# Altium schematic symbol library 我的元件库.SchLib: 102 symbols
Pins are listed as number, name and electrical type; pins without a type are passive.

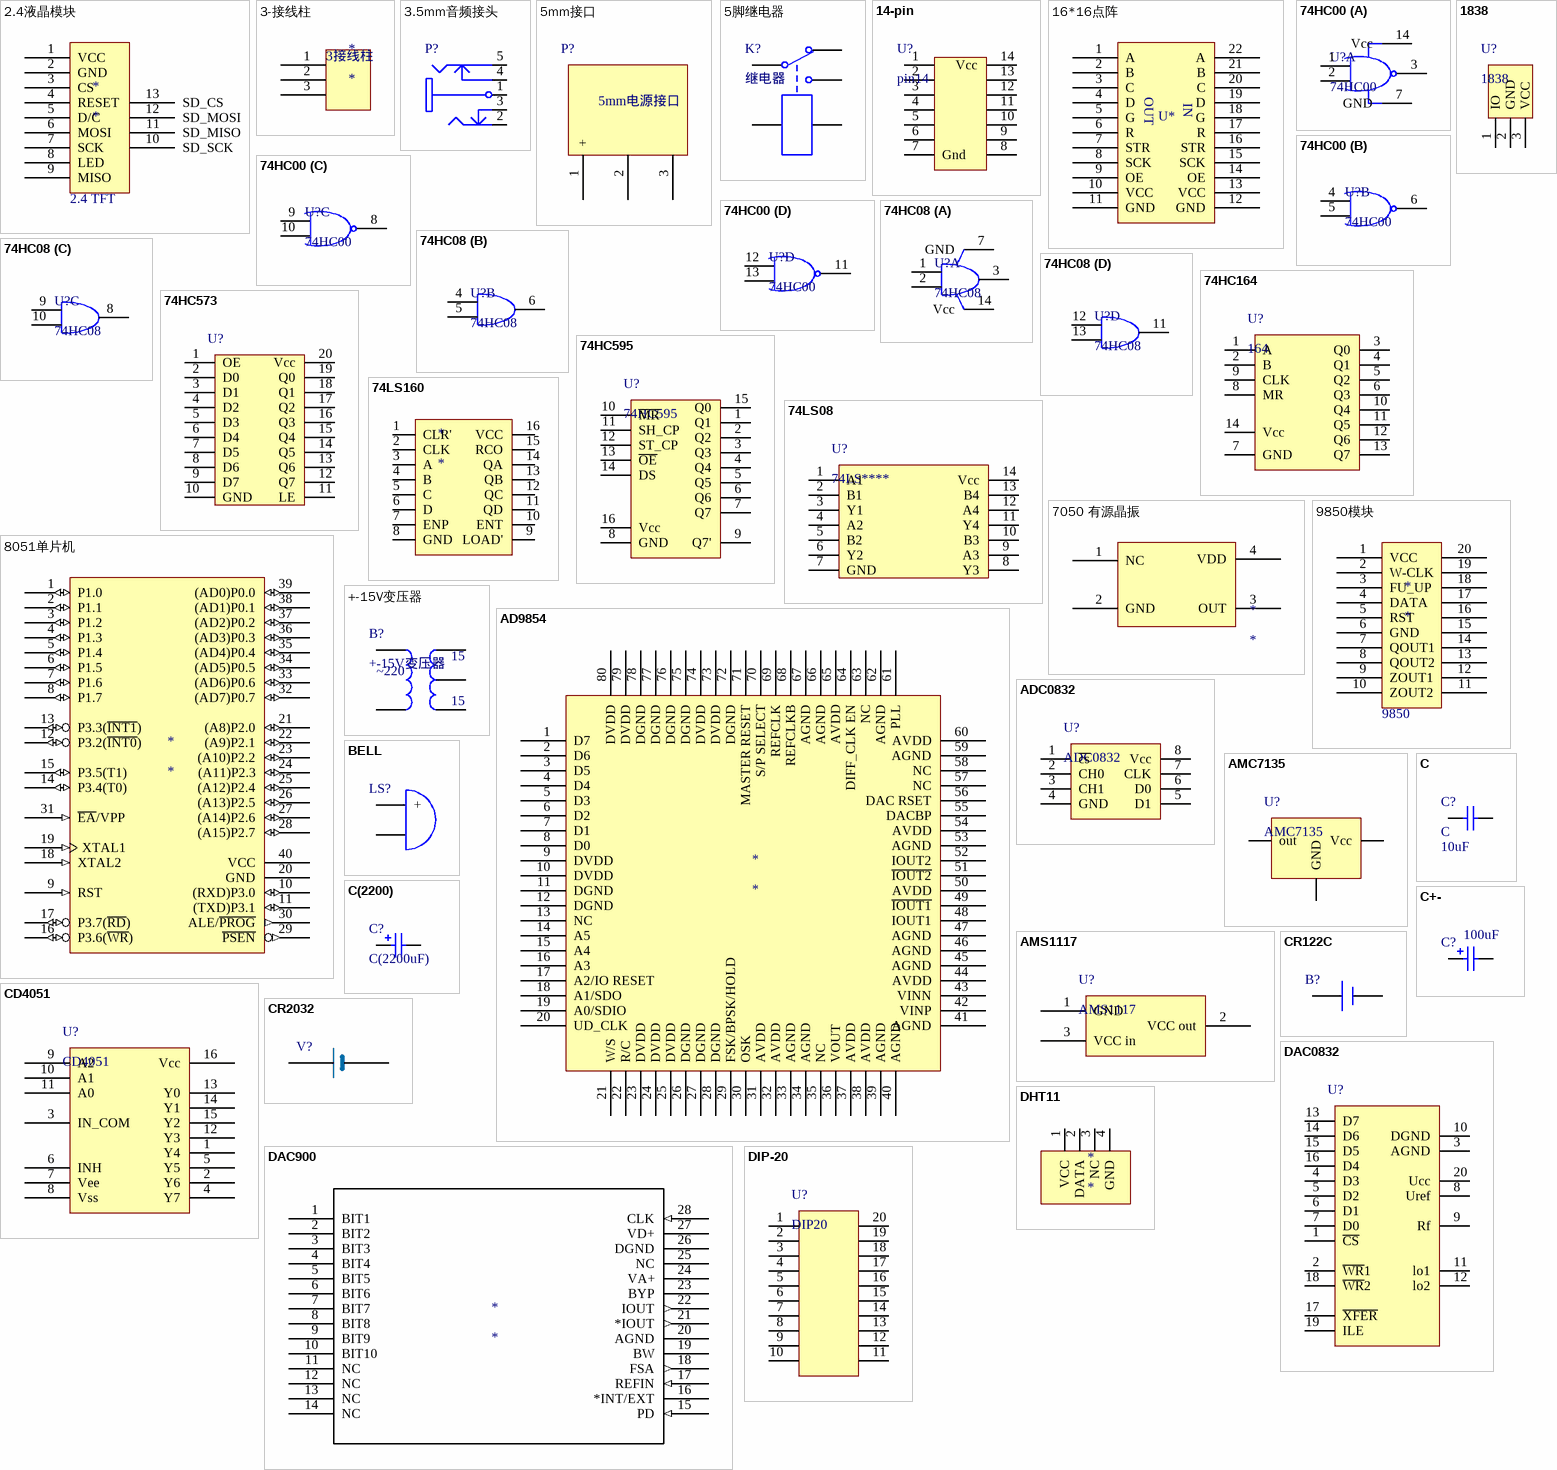
[diagram p0: symbols 2.4液晶模块 to DIP-20]

## 2.4液晶模块
designator *
footprint 2.4 TFT
pins: 1 VCC, 2 GND, 3 CS, 4 RESET, 5 D/C, 6 MOSI, 7 SCK, 8 LED, 9 MISO, 10 SD_SCK, 11 SD_MISO, 12 SD_MOSI, 13 SD_CS
text: 2.4 TFT

## 3-接线柱
designator *
footprint 3接线柱
pins: 1, 2, 3
text: 3接线柱

## 3.5mm音频接头
designator P?, comment 3.5mm  (value not drawn)
footprint 3.5 mm音频接头
pins: 1 Ground (power) "Outer Shield (Sleeve)", 2 (power), 3 (power), 4 (power), 5 (power)

## 5mm接口
designator P?, comment 5mm电源接口  (value not drawn)
footprint 5mm接口
pins: 1 + (power), 2 (power), 3 (power)

## 5脚继电器
designator K?, comment 继电器
footprint 5Pin继电器
pins: 1, 2, 3, 4, 5

## 14-pin
designator U?, comment pin14
footprint DIP14 (STC)
pins: 1, 2, 3, 4, 5, 6, 7 Gnd, 8, 9, 10, 11, 12, 13, 14 Vcc

## 16*16点阵
designator U*  (value not drawn)
footprint 16*16点阵
pins: 1 A, 2 B, 3 C, 4 D, 5 G, 6 R, 7 STR, 8 SCK, 9 OE, 10 VCC, 11 GND, 12 GND, 13 VCC, 14 OE, 15 SCK, 16 STR, 17 R, 18 G, 19 D, 20 C, 21 B, 22 A
text: OUT; IN

## 74HC00
designator U?
footprint DIP14
part A pins: 1, 2, 3, 7 GND, 14 Vcc
part B pins: 4, 5, 6
part C pins: 8, 9, 10
part D pins: 11, 12, 13

## 74HC08
designator U?
footprint DIP14
part A pins: 1, 2, 3, 7 GND, 14 Vcc
part B pins: 4  , 5  , 6  
part C pins: 8  , 9  , 10  
part D pins: 11  , 12  , 13  

## 74HC164
designator U?, comment 164
footprint SOP14
pins: 1 A, 2 B, 3 Q0, 4 Q1, 5 Q2, 6 Q3, 7 GND, 8 MR, 9 CLK, 10 Q4, 11 Q5, 12 Q6, 13 Q7, 14 Vcc

## 74HC573
designator U?  (value not drawn)
footprint SOP20 (STC)
pins: 1 OE, 2 D0, 3 D1, 4 D2, 5 D3, 6 D4, 7 D5, 8 D6, 9 D7, 10 GND, 11 LE, 12 Q7, 13 Q6, 14 Q5, 15 Q4, 16 Q3, 17 Q2, 18 Q1, 19 Q0, 20 Vcc

## 74HC595
designator U?
footprint DIP16
pins: 1 Q1, 2 Q2, 3 Q3, 4 Q4, 5 Q5, 6 Q6, 7 Q7, 8 GND, 9 Q7', 10 ~{MR}, 11 SH_CP, 12 ST_CP, 13 ~{OE}, 14 DS, 15 Q0, 16 Vcc

## 74LS08
designator U?, comment 74LS****
footprint DIP14
pins: 1 A1, 2 B1, 3 Y1, 4 A2, 5 B2, 6 Y2, 7 GND, 8 Y3, 9 A3, 10 B3, 11 Y4, 12 A4, 13 B4, 14 Vcc

## 74LS160
designator *
footprint DIP-16
pins: 1 CLR', 2 CLK, 3 A, 4 B, 5 C, 6 D, 7 ENP, 8 GND, 9 LOAD', 10 ENT, 11 QD, 12 QC, 13 QB, 14 QA, 15 RCO, 16 VCC

## 1838
designator U?
footprint DS18B20
pins: 1 IO, 2 GND, 3 VCC

## 7050 有源晶振
designator *
footprint 7050晶振
pins: 1 NC, 2 GND, 3 OUT, 4 VDD

## 8051单片机
designator *
pins: 1 P1.0 (io), 2 P1.1 (io), 3 P1.2 (io), 4 P1.3 (io), 5 P1.4 (io), 6 P1.5 (io), 7 P1.6 (io), 8 P1.7 (io), 9 RST (in), 10 (RXD)P3.0 (io), 11 (TXD)P3.1 (io), 12 P3.2(~{INT0}) (io), 13 P3.3(~{INT1}) (io), 14 P3.4(T0) (io), 15 P3.5(T1) (io), 16 P3.6(~{WR}) (io), 17 P3.7(~{RD}) (io), 18 XTAL2 (in), 19 XTAL1 (in), 20 GND (power), 21 (A8)P2.0 (io), 22 (A9)P2.1 (io), 23 (A10)P2.2 (io), 24 (A11)P2.3 (io), 25 (A12)P2.4 (io), 26 (A13)P2.5 (io), 27 (A14)P2.6 (io), 28 (A15)P2.7 (io), 29 ~{PSEN} (out), 30 ALE/~{PROG} (out), 31 ~{EA}/VPP (in), 32 (AD7)P0.7 (io), 33 (AD6)P0.6 (io), 34 (AD5)P0.5 (io), 35 (AD4)P0.4 (io), 36 (AD3)P0.3 (io), 37 (AD2)P0.2 (io), 38 (AD1)P0.1 (io), 39 (AD0)P0.0 (io), 40 VCC (power)

## 9850模块
designator *
footprint DDS9850
pins: 1 VCC, 2 W-CLK, 3 FU_UP, 4 DATA, 5 RST, 6 GND, 7 QOUT1, 8 QOUT2, 9 ZOUT1, 10 ZOUT2, 11, 12, 13, 14, 15, 16, 17, 18, 19, 20
text: 9850

## +-15V变压器
designator B?
footprint +——15V变压器
pins: 1, 2, 3, 4, 5
text: 15; ~220

## AD9854
designator *
pins: 1 D7, 2 D6, 3 D5, 4 D4, 5 D3, 6 D2, 7 D1, 8 D0, 9 DVDD, 10 DVDD, 11 DGND, 12 DGND, 13 NC, 14 A5, 15 A4, 16 A3, 17 A2/IO RESET, 18 A1/SDO, 19 A0/SDIO, 20 UD_CLK, 21 W/S, 22 R/C, 23 DVDD, 24 DVDD, 25 DVDD, 26 DGND, 27 DGND, 28 DGND, 29 FSK/BPSK/HOLD, 30 OSK, 31 AVDD, 32 AVDD, 33 AGND, 34 AGND, 35 NC, 36 VOUT, 37 AVDD, 38 AVDD, 39 AGND, 40 AGND, 41 AGND, 42 VINP, 43 VINN, 44 AVDD, 45 AGND, 46 AGND, 47 AGND, 48 IOUT1, 49 ~{IOUT1}, 50 AVDD, 51 ~{IOUT2}, 52 IOUT2, 53 AGND, 54 AVDD, 55 DACBP, 56 DAC RSET, 57 NC, 58 NC, 59 AGND, 60 AVDD, 61 PLL, 62 AGND, 63 NC, 64 DIFF_CLK EN, 65 AVDD, 66 AGND, 67 AGND, 68 REFCLKB, 69 REFCLK, 70 S/P SELECT, 71 MASTER RESET, 72 DGND, 73 DVDD, 74 DVDD, 75 DGND, 76 DGND, 77 DGND, 78 DGND, 79 DVDD, 80 DVDD

## ADC0832
designator U?
footprint DIP8
pins: 1 ~{cs}, 2 CH0, 3 CH1, 4 GND, 5 D1, 6 D0, 7 CLK, 8 Vcc

## AMC7135
designator U?
footprint SOT89-150P348X160-3N (SOT89, 3-Leads, Body 4.5x2.4mm (max), Pitch 1.50mm, Lead Span 3.5mm, IPC Medium Density)
pins: 1 out, 2 GND, 3 Vcc

## AMS1117
designator U?
footprint AMS1117
pins: 1 GND (power), 2 VCC out (power), 3 VCC in (power)

## BELL
designator LS?  (value not drawn)
footprint 有源蜂鸣器
pins: 1 +, 2 B

## C
designator C?  value 10uF
footprint 钽电容1210、3528
footprint C 2MM
footprint C 200MIL
footprint 0805 (Chip Capacitor, 2-Leads, Body 2.0x1.3mm, IPC Medium Density)
footprint 0603
footprint C 100MIL
pins: 1, 2

## C(2200)
designator C?, comment C(2200uF)
footprint 1,3mm
footprint 1.6mm
pins: 1, 2

## C+-
designator C?  value 100uF  (hidden comment: C+-)
footprint 电解电容
footprint C 100MIL
footprint C 200MIL
footprint C 2MM
pins: 1, 2

## CD4051
designator U?
footprint DIP16
pins: 1 Y4, 2 Y6, 3 IN_COM, 4 Y7, 5 Y5, 6 INH, 7 Vee, 8 Vss, 9 A2, 10 A1, 11 A0, 12 Y3, 13 Y0, 14 Y1, 15 Y2, 16 Vcc

## CR122C
designator B?, comment Battery  (value not drawn)
footprint CR122C
pins: 1 +, 2 -

## CR2032
designator V?, comment POWER  (value not drawn)
footprint CR2032
pins: 1 Vcc, 2 Vcc

## DAC0832
designator U?  (value not drawn)
footprint DIP-20
pins: 1 ~{CS}, 2 ~{WR}1, 3 AGND, 4 D3, 5 D2, 6 D1, 7 D0, 8 Uref, 9 Rf, 10 DGND, 11 lo1, 12 lo2, 13 D7, 14 D6, 15 D5, 16 D4, 17 ~{XFER}, 18 ~{WR}2, 19 ILE, 20 Ucc

## DAC900
designator *
footprint TSSOP28 (DAC900)
footprint DIP-28
pins: 1 BIT1, 2 BIT2, 3 BIT3, 4 BIT4, 5 BIT5, 6 BIT6, 7 BIT7, 8 BIT8, 9 BIT9, 10 BIT10, 11 NC, 12 NC, 13 NC, 14 NC, 15 PD (in), 16 *INT/EXT, 17 REFIN (in), 18 FSA (out), 19 BW, 20 AGND (power), 21 *IOUT (out), 22 IOUT (out), 23 BYP, 24 VA+ (power), 25 NC, 26 DGND (power), 27 VD+ (power), 28 CLK (in)

## DHT11
designator *
footprint pin 4
pins: 1 VCC, 2 DATA, 3 NC, 4 GND

## DIP-20
designator U?, comment DIP20
footprint DIP-20
pins: 1, 2, 3, 4, 5, 6, 7, 8, 9, 10, 11, 12, 13, 14, 15, 16, 17, 18, 19, 20

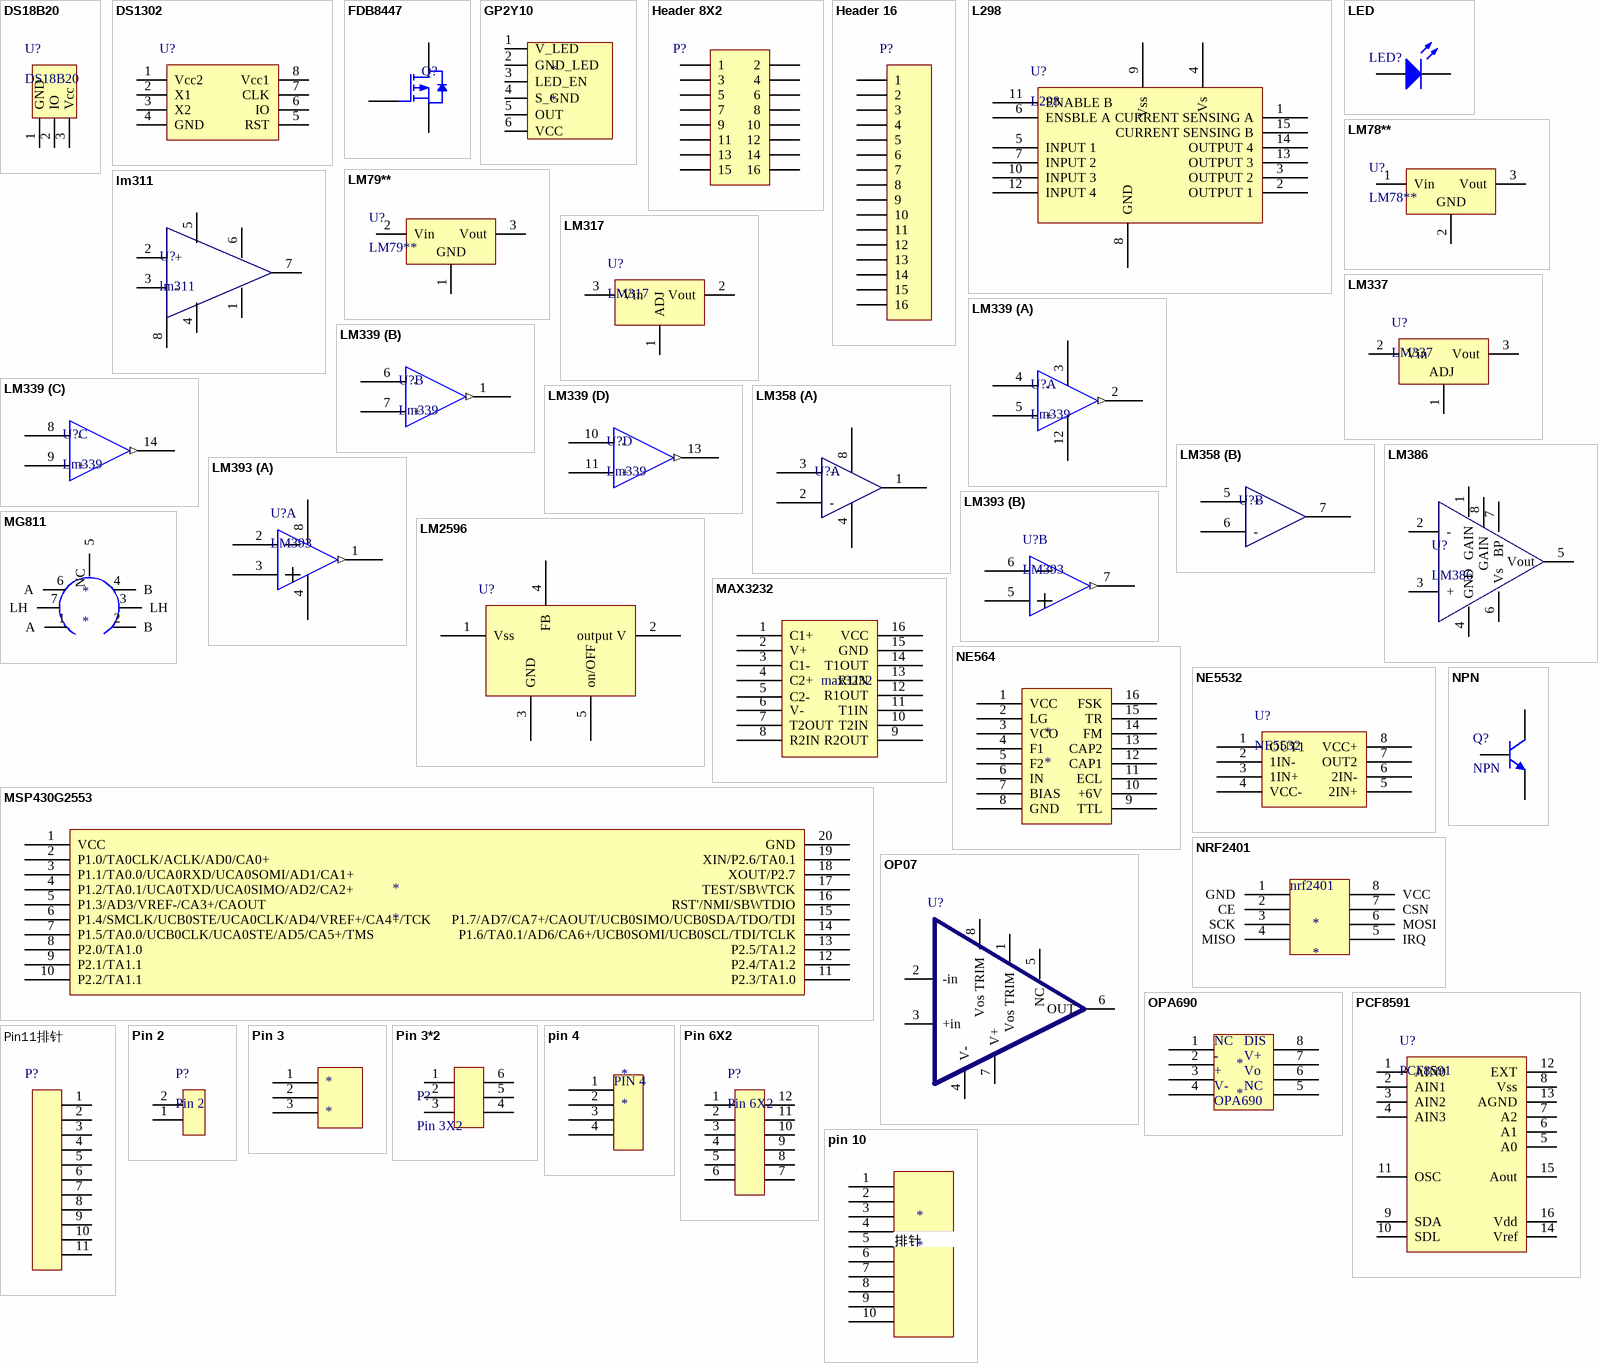
[diagram p1: symbols DS18B20 to pin 10]

## DS18B20
designator U?
footprint DS18B20
pins: 1 GND, 2 IO, 3 Vcc

## DS1302
designator U?  (value not drawn)
footprint SOP8 (STC)
pins: 1 Vcc2, 2 X1, 3 X2, 4 GND, 5 RST, 6 IO, 7 CLK, 8 Vcc1

## FDB8447
designator Q?, comment N-增强型-MOS  (value not drawn)
footprint TO-263AB
pins: 1 D, 2 G, 3 S

## GP2Y10
designator *
footprint pin6
pins: 1 V_LED, 2 GND_LED, 3 LED_EN, 4 S_GND, 5 OUT, 6 VCC

## Header 8X2
designator P?, comment P  (value not drawn)
footprint Header 8X2
pins: 1, 2, 3, 4, 5, 6, 7, 8, 9, 10, 11, 12, 13, 14, 15, 16

## Header 16
designator P?, comment P  (value not drawn)
footprint Header 16
pins: 1, 2, 3, 4, 5, 6, 7, 8, 9, 10, 11, 12, 13, 14, 15, 16

## L298
designator U?
footprint L298
pins: 1 CURRENT SENSING A (power), 2 OUTPUT 1 (power), 3 OUTPUT 2 (power), 4 Vs (power), 5 INPUT 1 (power), 6 ENSBLE A (power), 7 INPUT 2 (power), 8 GND (power), 9 Vss (power), 10 INPUT 3 (power), 11 ENABLE B (power), 12 INPUT 4 (power), 13 OUTPUT 3 (power), 14 OUTPUT 4 (power), 15 CURRENT SENSING B (power)

## LED
designator LED?  (value not drawn)
footprint LED1
footprint LED2
footprint 0805 (Chip Capacitor, 2-Leads, Body 2.0x1.3mm, IPC Medium Density)
pins: 1 A, 2 K

## LM78**
designator U?
footprint LM78**
pins: 1 Vin, 2 GND, 3 Vout

## LM79**
designator U?
footprint LM78**
pins: 1 GND, 2 Vin, 3 Vout

## lm311
designator U?
footprint DIP8 - duplicate
pins: 1 GNd, 2 +, 3 -, 4 VEE, 5 平衡, 6 平衡/选通, 7 output, 8 Vcc

## LM317
designator U?
footprint LM78**
pins: 1 ADJ, 2 Vout, 3 Vin

## LM337
designator U?
pins: 1 ADJ, 2 Vin, 3 Vout

## LM339
designator U?, comment Lm339
footprint DIP14
part A pins: 2 out1 (out), 3 Vcc, 4 -, 5 +, 12 GND
part B pins: 1 out1 (out), 6 -, 7 +
part C pins: 8 -, 9 +, 14 out1 (out)
part D pins: 10 -, 11 +, 13 out1 (out)

## LM358
designator U?  (value not drawn)
footprint DIP8 - duplicate
part A pins: 1 output1, 2 -, 3 +, 4 G, 8 V
part B pins: 5 +, 6 -, 7 output1

## LM386
designator U?
footprint DIP8 - duplicate
pins: 1 GAIN, 2 -, 3 +, 4 GND, 5 Vout, 6 Vs, 7 BP, 8 GAIN

## LM393
designator U?
footprint DIP8
part A pins: 1 out1 (out), 2 IN1(-), 3 IN1(+), 4 GND, 8 Vcc
part B pins: 5 IN2(+), 6 IN2(-), 7 out2 (out)

## LM2596
designator U?  (value not drawn)
footprint LM2596
footprint LM2596_tp
pins: 1 Vss, 2 output V, 3 GND, 4 FB, 5 on/OFF

## MAX3232
designator max3232  (value not drawn)
footprint SO16(MAX3232)
pins: 1 C1+, 2 V+, 3 C1-, 4 C2+, 5 C2-, 6 V-, 7 T2OUT, 8 R2IN, 9 R2OUT, 10 T2IN, 11 T1IN, 12 R1OUT, 13 R1IN, 14 T1OUT, 15 GND, 16 VCC

## MG811
designator *
footprint MQ座
pins: 1 A, 2 B, 3 LH, 4 B, 6 A, 7 LH, NC 5

## MSP430G2553
designator *
footprint DIP-20
pins: 1 VCC, 2 P1.0/TA0CLK/ACLK/AD0/CA0+, 3 P1.1/TA0.0/UCA0RXD/UCA0SOMI/AD1/CA1+, 4 P1.2/TA0.1/UCA0TXD/UCA0SIMO/AD2/CA2+, 5 P1.3/AD3/VREF-/CA3+/CAOUT, 6 P1.4/SMCLK/UCB0STE/UCA0CLK/AD4/VREF+/CA4+/TCK, 7 P1.5/TA0.0/UCB0CLK/UCA0STE/AD5/CA5+/TMS, 8 P2.0/TA1.0, 9 P2.1/TA1.1, 10 P2.2/TA1.1, 11 P2.3/TA1.0, 12 P2.4/TA1.2, 13 P2.5/TA1.2, 14 P1.6/TA0.1/AD6/CA6+/UCB0SOMI/UCB0SCL/TDI/TCLK, 15 P1.7/AD7/CA7+/CAOUT/UCB0SIMO/UCB0SDA/TDO/TDI, 16 RST'/NMI/SBWTDIO, 17 TEST/SBWTCK, 18 XOUT/P2.7, 19 XIN/P2.6/TA0.1, 20 GND

## NE564
designator *
footprint DIP-16
pins: 1 VCC, 2 LG, 3 VCO, 4 F1, 5 F2, 6 IN, 7 BIAS, 8 GND, 9 TTL, 10 +6V, 11 ECL, 12 CAP1, 13 CAP2, 14 FM, 15 TR, 16 FSK

## NE5532
designator U?
footprint DIP8 - duplicate
footprint SOP-8 (SOP, 8-Leads, Body 5.0x4.0mm (max), Pitch 1.27mm, IPC Medium Density)
pins: 1 OUT1, 2 1IN-, 3 1IN+, 4 VCC-, 5 2IN+, 6 2IN-, 7 OUT2, 8 VCC+

## NPN
designator Q?
footprint SOT-23
pins: 1 B, 2 E, 3 C

## NRF2401
designator *
footprint nrf2401 - duplicate
pins: 1 GND, 2 CE, 3 SCK, 4 MISO, 5 IRQ, 6 MOSI, 7 CSN, 8 VCC
text: nrf2401

## OP07
designator U?  (value not drawn)
footprint DIP8 - duplicate
pins: 1 Vos TRIM, 2 -in, 3 +in, 4 V-, 5 NC, 6 OUT, 7 V+, 8 Vos TRIM

## OPA690
designator *
footprint DIP8 - duplicate
footprint SOP-8 (SOP, 8-Leads, Body 5.0x4.0mm (max), Pitch 1.27mm, IPC Medium Density)
pins: 1, 2, 3, 4, 5, 6, 7, 8
text: NC; DIS; -; V+; +; Vo; V-

## PCF8591
designator U?
footprint DIP16
footprint SOP127P1030X265-16N (SOP, 16-Leads, Body 10.5x7.6mm (max), Pitch 1.27mm, IPC Medium Density)
pins: 1 AIN0, 2 AIN1, 3 AIN2, 4 AIN3, 5 A0, 6 A1, 7 A2, 8 Vss, 9 SDA, 10 SDL, 11 OSC, 12 EXT, 13 AGND, 14 Vref, 15 Aout, 16 Vdd

## Pin11排针
designator P?, comment Pin11  (value not drawn)
footprint Pin11
pins: 1, 2, 3, 4, 5, 6, 7, 8, 9, 10, 11

## Pin 2
designator P?
footprint Pin 2
pins: 1  , 2  

## Pin 3
designator *
footprint PIN 3
pins: 1, 2, 3

## Pin 3*2
designator P?, comment Pin 3X2
footprint Pin 3*2
pins: 1, 2, 3, 4, 5, 6

## pin 4
designator *
footprint pin 4
pins: 1, 2, 3, 4
text: PIN 4

## Pin 6X2
designator P?
footprint Pin 6X2
pins: 1, 2, 3, 4, 5, 6, 7, 8, 9, 10, 11, 12

## pin 10
designator *
footprint PIN10
pins: 1, 2, 3, 4, 5, 6, 7, 8, 9, 10
text: 排针

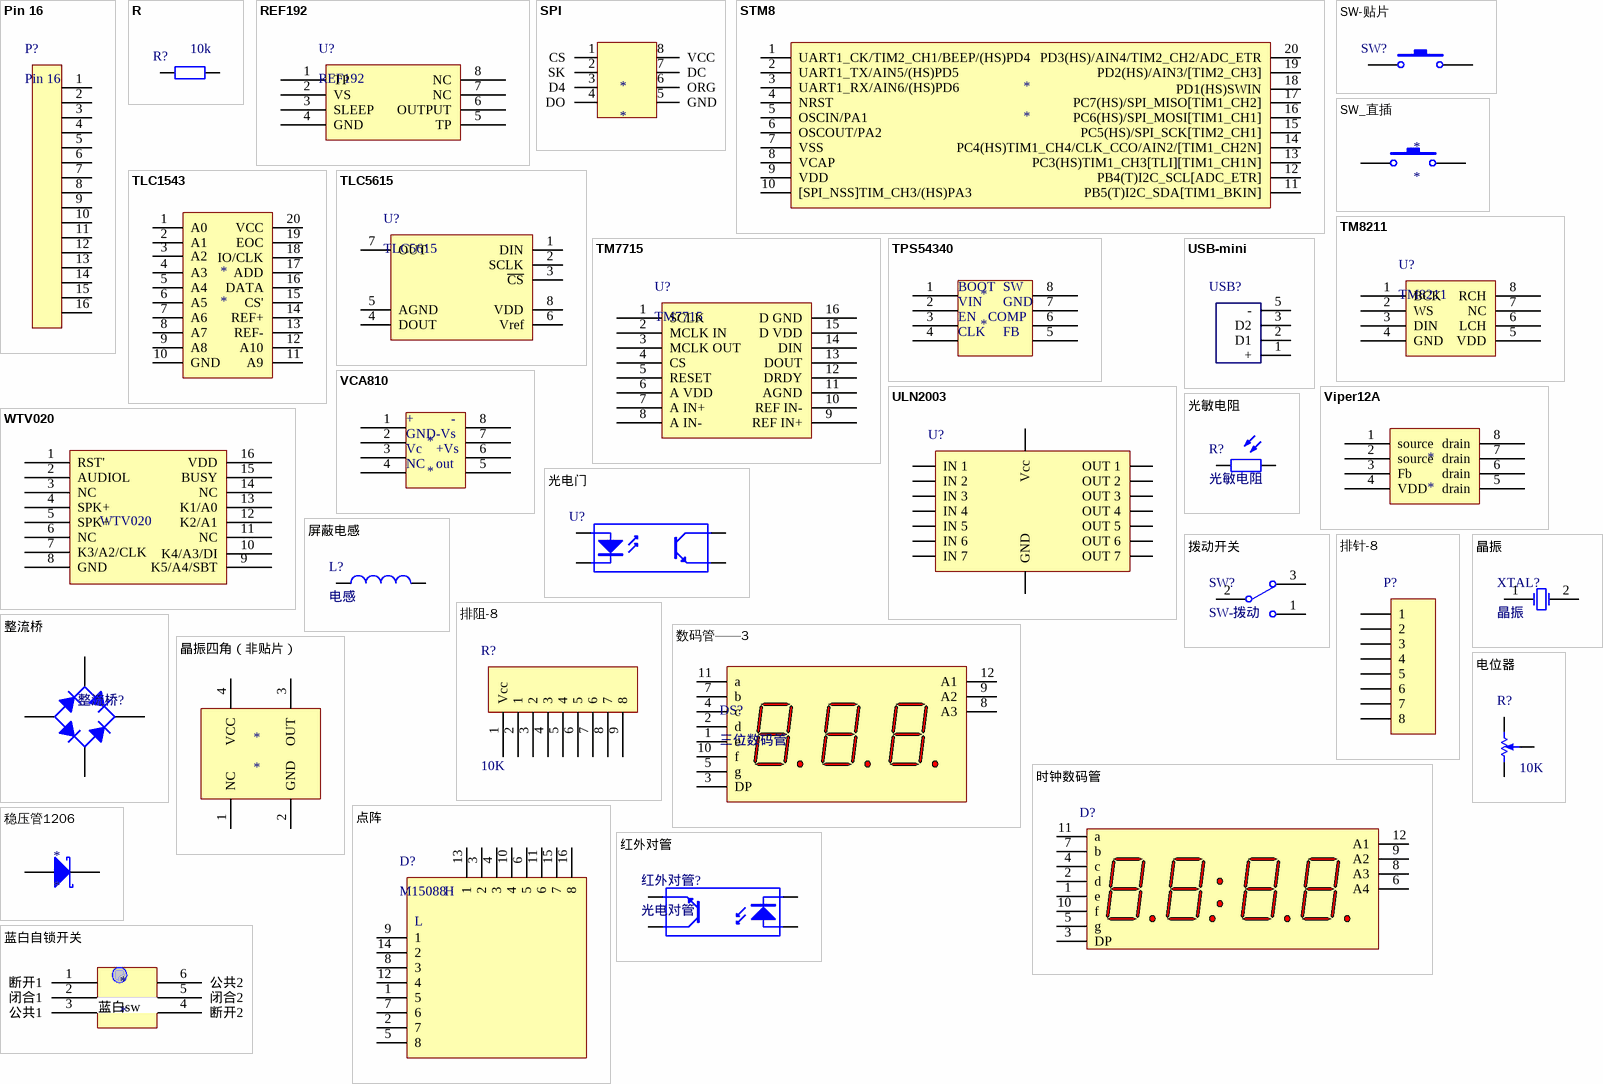
[diagram p2: symbols Pin 16 to 蓝白自锁开关]

## Pin 16
designator P?
footprint Pin16
pins: 1  , 2  , 3  , 4  , 5  , 6  , 7  , 8  , 9  , 10  , 11  , 12  , 13  , 14  , 15  , 16  

## R
designator R?  value 10k  (hidden comment: R)
footprint 0805 (Chip Capacitor, 2-Leads, Body 2.0x1.3mm, IPC Medium Density)
footprint R(0.3)
pins: 1, 2

## REF192
designator U?
footprint DIP8 - duplicate
pins: 1 TP, 2 VS, 3 SLEEP, 4 GND, 5 TP, 6 OUTPUT, 7 NC, 8 NC

## SPI
designator *
footprint DIP8
pins: 1 CS, 2 SK, 3 D4, 4 DO, 5 GND, 6 ORG, 7 DC, 8 VCC

## STM8
designator *
footprint TSSOP20 (STM8_103)
pins: 1 UART1_CK/TIM2_CH1/BEEP/(HS)PD4, 2 UART1_TX/AIN5/(HS)PD5, 3 UART1_RX/AIN6/(HS)PD6, 4 NRST, 5 OSCIN/PA1, 6 OSCOUT/PA2, 7 VSS, 8 VCAP, 9 VDD, 10 [SPI_NSS]TIM_CH3/(HS)PA3, 11 PB5(T)I2C_SDA[TIM1_BKIN], 12 PB4(T)I2C_SCL[ADC_ETR], 13 PC3(HS)TIM1_CH3[TLI][TIM1_CH1N], 14 PC4(HS)TIM1_CH4/CLK_CCO/AIN2/[TIM1_CH2N], 15 PC5(HS)/SPI_SCK[TIM2_CH1], 16 PC6(HS)/SPI_MOSI[TIM1_CH1], 17 PC7(HS)/SPI_MISO[TIM1_CH2], 18 PD1(HS)SWIN, 19 PD2(HS)/AIN3/[TIM2_CH3], 20 PD3(HS)/AIN4/TIM2_CH2/ADC_ETR

## SW-贴片
designator SW?  (value not drawn)
footprint SW-贴片
pins: 1, 2

## SW_直插
designator *
footprint SW_直插
pins: 1, 2

## TLC1543
designator *
pins: 1 A0, 2 A1, 3 A2, 4 A3, 5 A4, 6 A5, 7 A6, 8 A7, 9 A8, 10 GND, 11 A9, 12 A10, 13 REF-, 14 REF+, 15 CS', 16 DATA, 17 ADD, 18 IO/CLK, 19 EOC, 20 VCC

## TLC5615
designator U?
footprint DIP8 - duplicate
pins: 1 DIN, 2 SCLK, 3 ~{CS}, 4 DOUT, 5 AGND, 6 Vref, 7 OUT, 8 VDD

## TM7715
designator U?
footprint SOP127P1030X265-16N (SOP, 16-Leads, Body 10.5x7.6mm (max), Pitch 1.27mm, IPC Medium Density)
pins: 1 SCLK, 2 MCLK IN, 3 MCLK OUT, 4 CS, 5 RESET, 6 A VDD, 7 A IN+, 8 A IN-, 9 REF IN+, 10 REF IN-, 11 AGND, 12 DRDY, 13 DOUT, 14 DIN, 15 D VDD, 16 D GND

## TM8211
designator U?
footprint DIP8 - duplicate
pins: 1 BCK, 2 WS, 3 DIN, 4 GND, 5 VDD, 6 LCH, 7 NC, 8 RCH

## TPS54340
designator *
footprint SOP-8 (SOP, 8-Leads, Body 5.0x4.0mm (max), Pitch 1.27mm, IPC Medium Density)
pins: 1, 2, 3, 4, 5, 6, 7, 8
text: BOOT; SW; VIN; GND; EN; COMP; CLK; FB

## ULN2003
designator U?  (value not drawn)
footprint DIP16
pins: 1 IN 1, 2 IN 2, 3 IN 3, 4 IN 4, 5 IN 5, 6 IN 6, 7 IN 7, 8 GND (power), 9 Vcc (power), 10 OUT 7, 11 OUT 6, 12 OUT 5, 13 OUT 4, 14 OUT 3, 15 OUT 2, 16 OUT 1

## USB-mini
designator USB?  (value not drawn)
footprint USB-mini
pins: 1 +, 2 D1, 3 D2, 5 -

## VCA810
designator *
footprint SOP-8 (SOP, 8-Leads, Body 5.0x4.0mm (max), Pitch 1.27mm, IPC Medium Density)
pins: 1, 2, 3, 4, 5, 6, 7, 8
text: +; -; GND; -Vs; Vc; +Vs; NC; out

## Viper12A
designator *
footprint SOP-8 (SOP, 8-Leads, Body 5.0x4.0mm (max), Pitch 1.27mm, IPC Medium Density)
pins: 1 source, 2 source, 3 Fb, 4 VDD, 5 drain, 6 drain, 7 drain, 8 drain

## WTV020
designator WTV020  (value not drawn)
footprint WTV020
pins: 1 RST', 2 AUDIOL, 3 NC, 4 SPK+, 5 SPK+, 6 NC, 7 K3/A2/CLK, 8 GND, 9 K5/A4/SBT, 10 K4/A3/DI, 11 NC, 12 K2/A1, 13 K1/A0, 14 NC, 15 BUSY, 16 VDD

## 光敏电阻
designator R?
footprint Pin 2
pins: 1, 2

## 光电门
designator U?  (value not drawn)
footprint 光电门
pins: 1 A "Anode", 2 K "Cathode", 3 E "Emitter", 4 C "Collector"

## 屏蔽电感
designator L?, comment 电感
footprint 屏蔽电感
pins: 1, 2

## 拨动开关
designator SW?, comment SW-拨动
footprint 拨动开关
pins: 1, 2, 3

## 排针-8
designator P?, comment 排针  (value not drawn)
footprint 排针-8
pins: 1, 2, 3, 4, 5, 6, 7, 8

## 排阻-8
designator R?, comment value 10K  (hidden comment: R)
footprint 排阻-8
pins: 1 Vcc (power), 2 1 (power), 3 2 (power), 4 3 (power), 5 4 (power), 6 5 (power), 7 6 (power), 8 7 (power), 9 8 (power)

## 数码管——3
designator DS?, comment 三位数码管
footprint 数码管——3位
pins: 1 e "Anode", 2 d "Anode", 3 DP "Anode", 4 c "Anode", 5 g "Anode", 7 b "Anode", 8 A3, 9 A2, 10 f "Anode", 11 a "Anode", 12 A1

## 整流桥
designator 整流桥?  (value not drawn)
footprint 整流桥
footprint KBP310
pins: 1 K, 2 C, 3 A, 4 C

## 时钟数码管
designator D?, comment 数码管  (value not drawn)
footprint 时钟数码管
pins: 1 e "Anode", 2 d "Anode", 3 DP "Anode", 4 c "Anode", 5 g "Anode", 6 A4, 7 b "Anode", 8 A3, 9 A2, 10 f "Anode", 11 a "Anode", 12 A1

## 晶振
designator XTAL?
footprint 晶振
footprint 晶振1
pins: 1 OSC1, 2 OSC2

## 晶振四角（非贴片）
designator *
footprint 晶振1 - duplicate
pins: 1 NC, 2 GND, 3 OUT, 4 VCC

## 点阵
designator D?, comment M15088
footprint M15088
pins: 1 5, 2 7, 3 2, 4 3, 5 8, 6 5, 7 6, 8 3, 9 1, 10 4, 11 6, 12 4, 13 1, 14 2, 15 7, 16 8
text: H; L

## 电位器
designator R?, comment value 10K  (hidden comment: R)
footprint 电位器
footprint 兰白电位器
pins: 1 +, 2 W, 3 -

## 稳压管1206
designator *
footprint 稳压管1206
pins: 1 K, 2 A

## 红外对管
designator 红外对管?, comment 光电对管
footprint 光电对管
pins: 1 C "Collector", 2 gnd "Emitter", 3 K "Cathode", 4 A "Anode"

## 蓝白自锁开关
designator *
footprint 蓝白开关
pins: 1 断开1, 2 闭合1, 3 公共1, 4 断开2, 5 闭合2, 6 公共2
text: 蓝白sw